# Altium footprint library MUI.PcbLib: 38 footprints (part 2 of 3)
Each footprint in its own frame and in the unit in brackets; x right, y up, seen from the top. Pads: shape width x height; smd on the part's side, far side on the other; paste and mask are expansions set on the pad; w line width, h text height; cw(c..) or ccw(c..) is an arc to the next point about the centre after c.
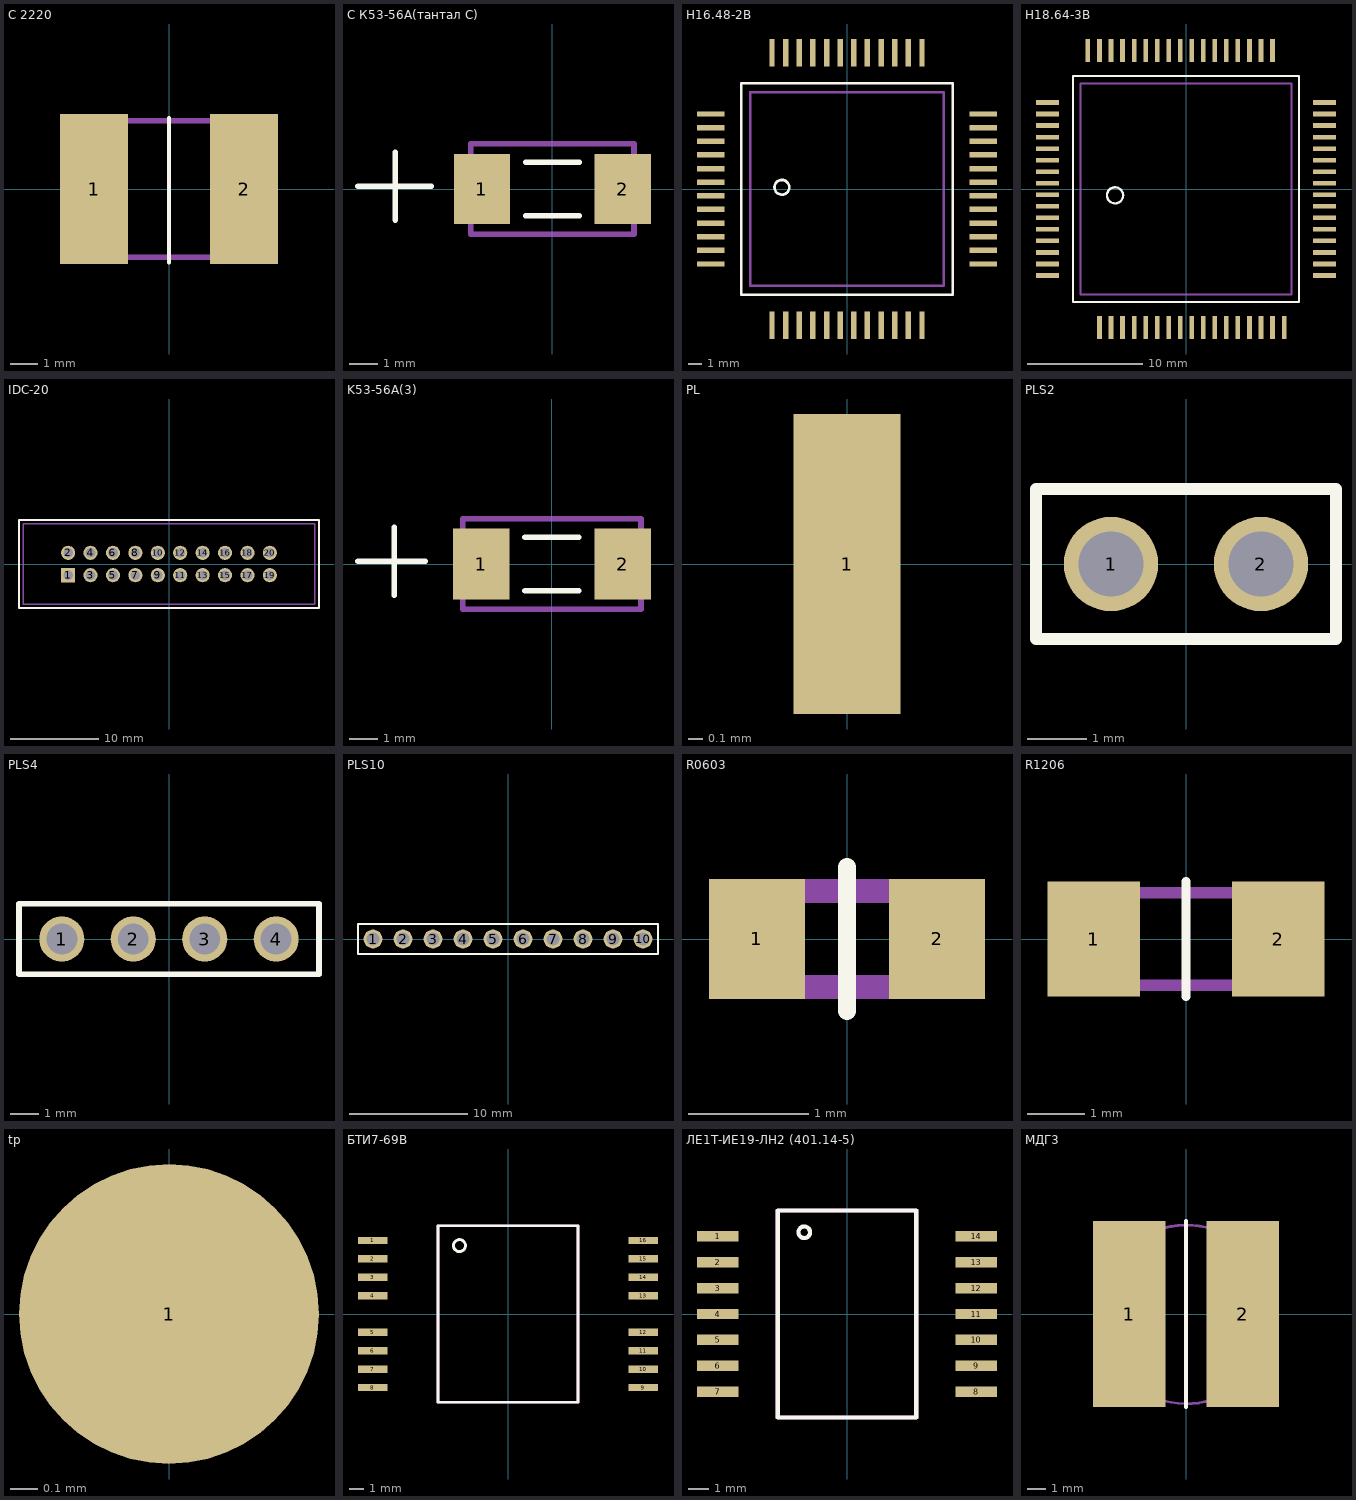
[diagram p1: the footprints below, top view; thin cyan lines are the x and y axes]

## C 2220 [mm]
pads (2):
  rect 2.5x5.5 smd: 1(-2.75,0) 2(2.75,0)
Top Overlay:
  lines w0.15: 0,-2.7 0,2.6
Mechanical 1:
  lines w0.2: -2.85,-2.5 2.85,-2.5 2.85,2.5 -2.85,2.5 -2.85,-2.5
3D body: height 1.75, standoff 0, extent -2.849,-2.499 2.849,2.499

## C К53-56А(тантал С) [mm]
pads (2):
  rect 2x2.5 smd: 1(-2.5,0) 2(2.5,0)
Top Overlay:
  lines w0.2: -6.9,0.1 -4.3,0.1 ; -5.575,-1.1 -5.575,1.3 ; -0.95,-0.95 0.95,-0.95 ; -0.95,0.95 0.95,0.95
Mechanical 1:
  lines w0.2: -2.9,-1 -2.9,-1.6 2.9,-1.6 2.9,-1 ; -2.9,1 -2.9,1.6 2.9,1.6 2.9,1 ; -3.15,-1 -1.85,-1 -1.85,1 -3.15,1 -3.15,-1 ; 1.85,-1 1.85,1 3.15,1 3.15,-1 1.85,-1
3D body: height 2.5, standoff 0, extent -2.899,-1.599 2.899,1.599
3D body: height 2, standoff 0, extent 1.851,-0.999 3.149,0.999
3D body: height 2, standoff 0, extent -3.149,-0.999 -1.851,0.999

## H16.48-2B [mm]
pads (48):
  rect 2x0.4 smd: 1(-10,-0.5) 2(-10,-1.5) 3(-10,-2.5) 4(-10,-3.5) 5(-10,-4.5) 6(-10,-5.5) 19(10,-5.5) 20(10,-4.5) 21(10,-3.5) 22(10,-2.5) 23(10,-1.5) 24(10,-0.5) 25(10,0.5) 26(10,1.5) 27(10,2.5) 28(10,3.5) 29(10,4.5) 30(10,5.5) 43(-10,5.5) 44(-10,4.5) 45(-10,3.5) 46(-10,2.5) 47(-10,1.5) 48(-10,0.5)
  rect 0.4x2 smd: 7(-5.5,-10) 8(-4.5,-10) 9(-3.5,-10) 10(-2.5,-10) 11(-1.5,-10) 12(-0.5,-10) 13(0.5,-10) 14(1.5,-10) 15(2.5,-10) 16(3.5,-10) 17(4.5,-10) 18(5.5,-10) 31(5.5,10) 32(4.5,10) 33(3.5,10) 34(2.5,10) 35(1.5,10) 36(0.5,10) 37(-0.5,10) 38(-1.5,10) 39(-2.5,10) 40(-3.5,10) 41(-4.5,10) 42(-5.5,10)
Top Overlay:
  circle w0.2: c-4.775,0.125 r0.54
  lines w0.2: -7.75,-7.75 7.75,-7.75 7.75,7.75 -7.75,7.75 -7.75,-7.75
Mechanical 1:
  lines w0.2: -7.1,7.1 7.1,7.1 7.1,-7.1 -7.1,-7.1 -7.1,7.1 ; -7.1,7.1 -7.1,7.1
3D body: height 3, standoff 0, extent -7.099,-7.099 7.099,7.099

## H18.64-3B [mm]
pads (66):
  rect 2x0.4 smd: 1(-12,-0.5) 2(-12,-1.5) 3(-12,-2.5) 4(-12,-3.5) 5(-12,-4.5) 6(-12,-5.5) 7(-12,-6.5) 8(-12,-7.5) 25(12,-7.5) 26(12,-6.5) 27(12,-5.5) 28(12,-4.5) 29(12,-3.5) 30(12,-2.5) 31(12,-1.5) 32(12,-0.5) 33(12,0.5) 34(12,1.5) 35(12,2.5) 36(12,3.5) 37(12,4.5) 38(12,5.5) 39(12,6.5) 40(12,7.5) 57(-12,7.5) 58(-12,6.5) 59(-12,5.5) 60(-12,4.5) 61(-12,3.5) 62(-12,2.5) 63(-12,1.5) 64(-12,0.5)
  rect 0.4x2 smd: 9(-7.5,-12) 10(-6.5,-12) 11(-5.5,-12) 12(-4.5,-12) 13(-3.5,-12) 14(-2.5,-12) 15(-1.5,-12) 16(-0.5,-12) 17(0.5,-12) 18(1.5,-12) 19(2.5,-12) 20(3.5,-12) 21(4.5,-12) 22(5.5,-12) 23(6.5,-12) 24(7.5,-12) 41(7.5,12) 42(6.5,12) 43(5.5,12) 44(4.5,12) 45(3.5,12) 46(2.5,12) 47(1.5,12) 48(0.5,12) 49(-0.5,12) 50(-1.5,12) 51(-2.5,12) 52(-3.5,12) 53(-4.5,12) 54(-5.5,12) 55(-6.5,12) 56(-7.5,12) 65(8.5,-12) 66(-8.5,12)
Top Overlay:
  circle w0.2: c-6.15,-0.55 r0.7
  lines w0.2: -9.8,-9.8 9.8,-9.8 9.8,9.8 -9.8,9.8 -9.8,-9.8
Mechanical 1:
  lines w0.2: -9.15,-9.15 9.15,-9.15 9.15,8.625 9.15,9.15 -9.15,9.15 -9.15,-9.15
3D body: height 3, standoff 0, extent -9.149,-9.149 9.149,9.149

## IDC-20 [mm]
pads (20):
  rect 1.6x1.6 hole 1.1: 1(-11.43,-1.27)
  round 1.6 hole 1.1: 2(-11.43,1.27) 3(-8.89,-1.27) 4(-8.89,1.27) 5(-6.35,-1.27) 6(-6.35,1.27) 7(-3.81,-1.27) 8(-3.81,1.27) 9(-1.27,-1.27) 10(-1.27,1.27) 11(1.27,-1.27) 12(1.27,1.27) 13(3.81,-1.27) 14(3.81,1.27) 15(6.35,-1.27) 16(6.35,1.27) 17(8.89,-1.27) 18(8.89,1.27) 19(11.43,-1.27) 20(11.43,1.27)
Top Overlay:
  lines w0.2: -17,-5 -17,5 17,5 17,-5 -17,-5
Mechanical 1:
  lines w0.2: -16.52,-4.545 -16.525,-4.55 ; -16.525,-4.55 16.525,-4.55 16.525,4.55 -16.525,4.55 -16.525,-4.55 ; -16.525,-4.55 -16.525,-4.55
3D body: height 9.1, standoff 0.1, extent -16.525,-4.55 16.525,4.55

## K53-56A(3) [mm]
pads (2):
  rect 2x2.5 smd: 1(-2.5,0) 2(2.5,0)
Top Overlay:
  lines w0.2: -6.85,0.1 -4.475,0.1 ; -5.575,-1.1 -5.575,1.3 ; -0.95,-0.95 0.95,-0.95 ; -0.95,0.95 0.95,0.95
Mechanical 1:
  lines w0.2: -3.15,-1 -3.15,-1.6 3.15,-1.6 3.15,-1 ; -3.15,-1 -3.15,1 ; -3.15,-1 -1.85,-1 -1.85,1 -3.15,1 ; -3.15,1 -3.15,1.6 3.15,1.6 3.15,1 ; 3.15,-1 3.15,1 ; 3.15,-1 1.85,-1 1.85,1 3.15,1
3D body: height 2.5, standoff 0, extent 1.85,-1 3.15,1
3D body: height 2.5, standoff 0, extent -3.15,-1 -1.85,0.975
3D body: height 2.5, standoff 0, extent -3.15,-1.6 3.15,1.6

## PL [mm]
pads (1):
  rect 0.75x2.1 smd: 1(0,0)

## PLS2 [mm]
pads (2):
  round 1.6 hole 1.1: 1(-1.27,0) 2(1.27,0)
Top Overlay:
  lines w0.2: -2.54,-1.27 -2.54,1.27 2.54,1.27 2.54,-1.27 -2.54,-1.27

## PLS4 [mm]
pads (4):
  round 1.6 hole 1.1: 1(-3.81,0) 2(-1.27,0) 3(1.27,0) 4(3.81,0)
Top Overlay:
  lines w0.2: -5.33,-1.25 -5.33,1.25 5.33,1.25 5.33,-1.25 -5.33,-1.25

## PLS10 [mm]
pads (10):
  round 1.6 hole 1.1: 1(-11.43,0) 2(-8.89,0) 3(-6.35,0) 4(-3.81,0) 5(-1.27,0) 6(1.27,0) 7(3.81,0) 8(6.35,0) 9(8.89,0) 10(11.43,0)
Top Overlay:
  lines w0.2: -12.7,-1.27 12.7,-1.27 12.7,1.27 -12.7,1.27 -12.7,-1.27

## R0603 [mm]
pads (2):
  rect 0.8x1 smd: 1(-0.75,0) 2(0.75,0)
Top Overlay:
  lines w0.15: 0,-0.6 0,0.6
Mechanical 1:
  lines w0.2: -0.8,-0.4 -0.8,0.4 0.8,0.4 0.8,-0.4 -0.8,-0.4
3D body: height 0.4, standoff 0, extent -0.9,-0.5 0.9,0.5

## R1206 [mm]
pads (2):
  rect 1.6x2 smd: 1(-1.6,0) 2(1.6,0)
Top Overlay:
  lines w0.15: 0,-1 0,1
Mechanical 1:
  lines w0.2: -1.6,-0.8 1.6,-0.8 1.6,0.8 -1.6,0.8 -1.6,-0.8
3D body: height 0.7, standoff 0, extent -1.7,-0.9 1.7,0.9

## tp [mm]
pads (1):
  round 1.1 smd: 1(0,0)

## БТИ7-69В [mm]
pads (16):
  rect 2x0.5 smd: 1(-9.2,5) 2(-9.2,3.75) 3(-9.2,2.5) 4(-9.2,1.25) 5(-9.2,-1.25) 6(-9.2,-2.5) 7(-9.2,-3.75) 8(-9.2,-5) 9(9.2,-5) 10(9.2,-3.75) 11(9.2,-2.5) 12(9.2,-1.25) 13(9.2,1.25) 14(9.2,2.5) 15(9.2,3.75) 16(9.2,5)
Top Overlay:
  circle w0.2: c-3.3,4.65 r0.407
  lines w0.2: -4.75,-6 4.75,-6 4.75,6 -4.75,6 -4.75,-6
Mechanical 1:
  lines w0.2: 4.75,6 4.75,-6 -4.75,-6 -4.75,6 4.75,6 ; 4.75,6 4.75,6
3D body: height 2.5, standoff 0, extent -4.749,-5.999 4.749,5.999

## ЛЕ1Т-ИЕ19-ЛН2 (401.14-5) [mm]
pads (14):
  rect 2x0.5 smd: 1(-6.25,3.75) 2(-6.25,2.5) 3(-6.25,1.25) 4(-6.25,0) 5(-6.25,-1.25) 6(-6.25,-2.5) 7(-6.25,-3.75) 8(6.25,-3.75) 9(6.25,-2.5) 10(6.25,-1.25) 11(6.25,0) 12(6.25,1.25) 13(6.25,2.5) 14(6.25,3.75)
Top Overlay:
  circle w0.2: c-2.066,3.95 r0.28
  lines w0.2: -3.35,-5 3.35,-5 3.35,5 -3.35,5 -3.35,-5
Mechanical 1:
  lines w0.2: -3.35,-5 3.35,-5 3.35,5 -3.35,5 -3.35,-5
3D body: height 1.97, standoff 0, extent -3.45,-5.1 3.45,5.1

## МДГ3 [mm]
pads (2):
  rect 3.85x9.9 smd: 1(-3.025,0) 2(3.025,0)
Top Overlay:
  lines w0.2: 0,-4.95 0,4.95
Mechanical 1:
  circle w0.15: c0.03,-0.02 r4.75
3D body: height 6.3, standoff 0, extent -4.749,-4.749 4.749,4.749
3D body: height 1.5, standoff -0.3, extent -0.035,-0.005 -0.035,-0.005